# EAGLE library part IFX007T (library IFX007T)
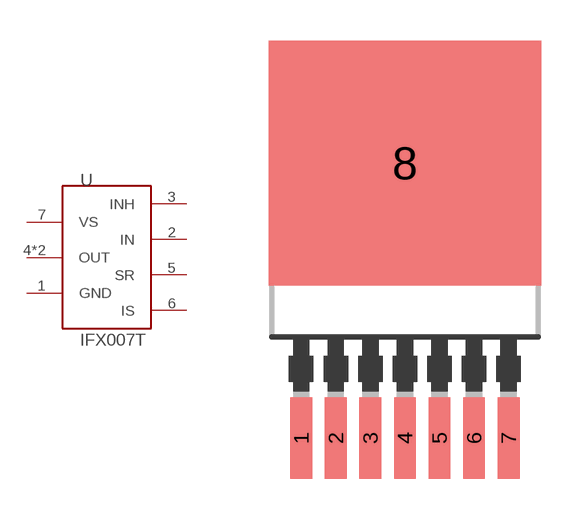
[diagram p0: symbol with the pads of P-TO263-7-1; footprint P-TO263-7-1]

Designator prefix -

## IFX007TZZZZ  [P-TO263-7-1]
1  GND  pwr
2  IN  in
3  INH
4  OUT  pwr
5  SR  in
6  IS  out
7  VS  pwr
8  OUT  pwr

## Footprint P-TO263-7-1 (pad centres in mm)
Plastic Transistor Single Outline Package P-TO263-7-1 Option E3180 Source: http://www.infineon.com .. tle5205-2.pdf
smd 0.8 x 3: 1 -3.81,-9.207; 2 -2.54,-9.207; 3 -1.27,-9.207; 4 0,-9.207; 5 1.27,-9.207; 6 2.54,-9.207; 7 3.81,-9.207
smd 10 x 9: 8 0,0.895